# Altium footprint library CONN_W2B.PcbLib: 89 footprints (part 5 of 6)
Each footprint in its own frame and in the unit in brackets; x right, y up, seen from the top. Pads: shape width x height; smd on the part's side, far side on the other; paste and mask are expansions set on the pad; w line width, h text height; cw(c..) or ccw(c..) is an arc to the next point about the centre after c.
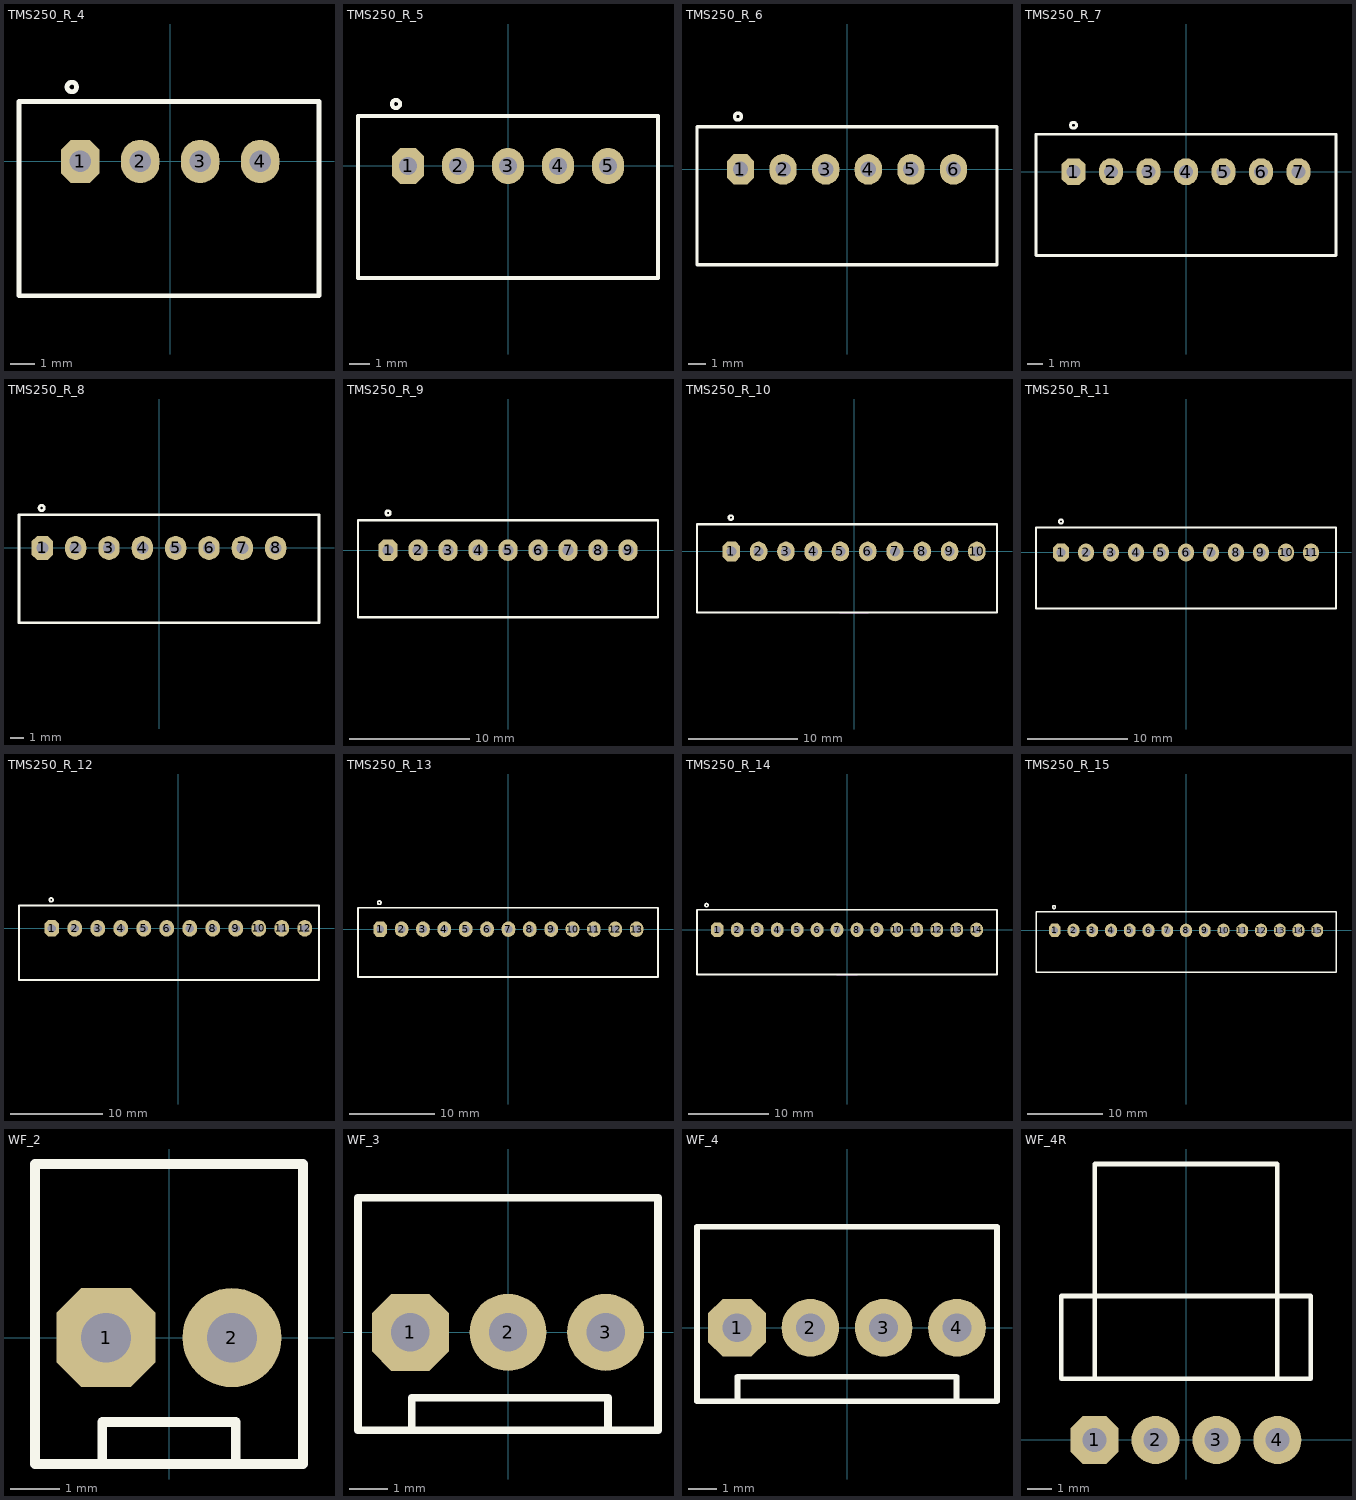
[diagram p4: the footprints below, top view; thin cyan lines are the x and y axes]

## TMS250_R_4 [mm] "Molex Mini-SPOX, pitch 2.50mm, 4.0A"
pads (4):
  oct 1.6x1.8 hole 0.9: 1(-3.75,0)
  oval 1.6x1.8 hole 0.9: 2(-1.25,0) 3(1.25,0) 4(3.75,0)
Top Overlay:
  circle w0.2: c-4.1,3.1 r0.2
  lines w0.2: -6.3,-5.6 6.2,-5.6 6.2,2.5 -6.3,2.5 -6.3,-5.6
Mechanical 13:
  lines w0.1: -1.3,-5.6 1.3,-5.6
  text "Edge of PCB" at 1.405,-5.932 h1
3D body "User Library-TMS4-2_5_RA-H.step": height 5.12, standoff -3.08, extent -6.25,-11.5 6.15,1.4

## TMS250_R_5 [mm] "Molex Mini-SPOX, pitch 2.50mm, 4.0A"
pads (5):
  oct 1.6x1.8 hole 0.9: 1(-5,0)
  oval 1.6x1.8 hole 0.9: 2(-2.5,0) 3(0,0) 4(2.5,0) 5(5,0)
Top Overlay:
  circle w0.2: c-5.6,3.1 r0.2
  lines w0.2: -7.5,-5.6 7.5,-5.6 7.5,2.5 -7.5,2.5 -7.5,-5.6
Mechanical 13:
  lines w0.1: -1.3,-5.6 1.3,-5.6
  text "Edge of PCB" at 1.405,-5.932 h1
3D body "User Library-TMS5-2_5_RA-H.step": height 5.06, standoff -3.14, extent -7.45,-10.5 7.45,2.4

## TMS250_R_6 [mm] "Molex Mini-SPOX, pitch 2.50mm, 4.0A"
pads (6):
  oct 1.6x1.8 hole 0.9: 1(-6.25,0)
  oval 1.6x1.8 hole 0.9: 2(-3.75,0) 3(-1.25,0) 4(1.25,0) 5(3.75,0) 6(6.25,0)
Top Overlay:
  circle w0.2: c-6.4,3.1 r0.2
  lines w0.2: -8.8,-5.6 8.8,-5.6 8.8,2.5 -8.8,2.5 -8.8,-5.6
Mechanical 13:
  lines w0.1: -1.3,-5.6 1.3,-5.6
  text "Edge of PCB" at 1.405,-5.932 h1
3D body "User Library-TMS6-2_5_RA-H.step": height 5.04, standoff -3.16, extent -8.7,-11.5 8.7,1.4

## TMS250_R_7 [mm] "Molex Mini-SPOX, pitch 2.50mm, 4.0A"
pads (7):
  oct 1.6x1.8 hole 0.9: 1(-7.5,0)
  oval 1.6x1.8 hole 0.9: 2(-5,0) 3(-2.5,0) 4(0,0) 5(2.5,0) 6(5,0) 7(7.5,0)
Top Overlay:
  circle w0.2: c-7.5,3.1 r0.2
  lines w0.2: -10,-5.6 10,-5.6 10,2.5 -10,2.5 -10,-5.6
Mechanical 13:
  lines w0.1: -1.3,-5.6 1.3,-5.6
  text "Edge of PCB" at 1.405,-5.932 h1
3D body "User Library-TMS7-2_5_RA-H.step": height 5, standoff -3.2, extent -9.95,-10.5 9.95,2.4

## TMS250_R_8 [mm] "Molex Mini-SPOX, pitch 2.50mm, 4.0A"
pads (8):
  oct 1.6x1.8 hole 0.9: 1(-8.75,0)
  oval 1.6x1.8 hole 0.9: 2(-6.25,0) 3(-3.75,0) 4(-1.25,0) 5(1.25,0) 6(3.75,0) 7(6.25,0) 8(8.75,0)
Top Overlay:
  circle w0.2: c-8.8,3 r0.2
  lines w0.2: -10.5,-5.6 12,-5.6 12,2.5 -10.5,2.5 -10.5,-5.6
Mechanical 13:
  lines w0.1: -1.3,-5.6 1.3,-5.6
  text "Edge of PCB" at 1.405,-5.932 h1
3D body "User Library-TMS8-2_5_RA-H.step": height 5.08, standoff -3.12, extent -10.441,-10.5 11.959,2.4

## TMS250_R_9 [mm] "Molex Mini-SPOX, pitch 2.50mm, 4.0A"
pads (9):
  oct 1.6x1.8 hole 0.9: 1(-10,0)
  oval 1.6x1.8 hole 0.9: 2(-7.5,0) 3(-5,0) 4(-2.5,0) 5(0,0) 6(2.5,0) 7(5,0) 8(7.5,0) 9(10,0)
Top Overlay:
  circle w0.2: c-10,3.1 r0.2
  lines w0.2: -12.5,-5.6 12.5,-5.6 12.5,2.5 -12.5,2.5 -12.5,-5.6
Mechanical 13:
  lines w0.1: -1.3,-5.6 1.3,-5.6
  text "Edge of PCB" at 1.405,-5.932 h1
3D body "User Library-TMS9-2_5_RA-H.step": height 5.06, standoff -3.14, extent -12.45,-10.4 12.45,2.5

## TMS250_R_10 [mm] "Molex Mini-SPOX, pitch 2.50mm, 4.0A"
pads (10):
  oct 1.6x1.8 hole 0.9: 1(-11.25,0)
  oval 1.6x1.8 hole 0.9: 2(-8.75,0) 3(-6.25,0) 4(-3.75,0) 5(-1.25,0) 6(1.25,0) 7(3.75,0) 8(6.25,0) 9(8.75,0) 10(11.25,0)
Top Overlay:
  circle w0.2: c-11.3,3.1 r0.2
  lines w0.2: -14.4,-5.6 -14.4,2.5 13.1,2.5 13.1,-5.6 -14.4,-5.6
Mechanical 13:
  lines w0.1: -1.3,-5.6 1.3,-5.6
  text "Edge of PCB" at 1.405,-5.932 h1
3D body "User Library-TMS10-2_5_RA-H.step": height 5.07, standoff -3.13, extent -14.359,-10.5 13.041,2.4

## TMS250_R_11 [mm] "Molex Mini-SPOX, pitch 2.50mm, 4.0A"
pads (11):
  oct 1.6x1.8 hole 0.9: 1(-12.5,0)
  oval 1.6x1.8 hole 0.9: 2(-10,0) 3(-7.5,0) 4(-5,0) 5(-2.5,0) 6(0,0) 7(2.5,0) 8(5,0) 9(7.5,0) 10(10,0) 11(12.5,0)
Top Overlay:
  circle w0.2: c-12.5,3.1 r0.2
  lines w0.2: -15,-5.6 15,-5.6 15,2.5 -15,2.5 -15,-5.6
Mechanical 13:
  lines w0.1: -1.3,-5.6 1.3,-5.6
  text "Edge of PCB" at 1.405,-5.932 h1
3D body "User Library-TMS11-2_5_RA-H.step": height 5.06, standoff -3.14, extent -14.95,-11.5 14.95,1.4

## TMS250_R_12 [mm] "Molex Mini-SPOX, pitch 2.50mm, 4.0A"
pads (12):
  oct 1.6x1.8 hole 0.9: 1(-13.75,0)
  oval 1.6x1.8 hole 0.9: 2(-11.25,0) 3(-8.75,0) 4(-6.25,0) 5(-3.75,0) 6(-1.25,0) 7(1.25,0) 8(3.75,0) 9(6.25,0) 10(8.75,0) 11(11.25,0) 12(13.75,0)
Top Overlay:
  circle w0.2: c-13.8,3.1 r0.2
  lines w0.2: -17.3,-5.6 -17.3,2.5 15.3,2.5 15.3,-5.6 -17.3,-5.6
Mechanical 13:
  lines w0.1: -1.3,-5.6 1.3,-5.6
  text "Edge of PCB" at 1.405,-5.932 h1
3D body "User Library-TMS12-2_5_RA-H.step": height 5.08, standoff -3.12, extent -17.195,-10.5 15.205,2.4

## TMS250_R_13 [mm] "Molex Mini-SPOX, pitch 2.50mm, 4.0A"
pads (13):
  oct 1.6x1.8 hole 0.9: 1(-15,0)
  oval 1.6x1.8 hole 0.9: 2(-12.5,0) 3(-10,0) 4(-7.5,0) 5(-5,0) 6(-2.5,0) 7(0,0) 8(2.5,0) 9(5,0) 10(7.5,0) 11(10,0) 12(12.5,0) 13(15,0)
Top Overlay:
  circle w0.2: c-15.1,3.1 r0.2
  lines w0.2: -17.6,-5.6 -17.6,2.5 17.5,2.5 17.5,-5.6 -17.6,-5.6
Mechanical 13:
  lines w0.1: -1.3,-5.6 1.3,-5.6
  text "Edge of PCB" at 1.405,-5.932 h1
3D body "User Library-TMS13-2_5_RA-H.step": height 5.07, standoff -2.78, extent -17.45,-11.5 17.45,1.4

## TMS250_R_14 [mm] "Molex Mini-SPOX, pitch 2.50mm, 4.0A"
pads (14):
  oct 1.6x1.8 hole 0.9: 1(-16.25,0)
  oval 1.6x1.8 hole 0.9: 2(-13.75,0) 3(-11.25,0) 4(-8.75,0) 5(-6.25,0) 6(-3.75,0) 7(-1.25,0) 8(1.25,0) 9(3.75,0) 10(6.25,0) 11(8.75,0) 12(11.25,0) 13(13.75,0) 14(16.25,0)
Top Overlay:
  circle w0.2: c-17.6,3.1 r0.2
  lines w0.2: -18.8,-5.6 -18.8,2.5 18.8,2.5 18.8,-5.6 -18.8,-5.6
Mechanical 13:
  lines w0.1: -1.3,-5.6 1.3,-5.6
  text "Edge of PCB" at 1.405,-5.932 h1
3D body "User Library-TMS14-2_5_RA-H.step": height 5, standoff -3.2, extent -18.7,-10.5 18.7,2.4

## TMS250_R_15 [mm] "Molex Mini-SPOX, pitch 2.50mm, 4.0A"
pads (15):
  oct 1.6x1.8 hole 0.9: 1(-17.5,0)
  oval 1.6x1.8 hole 0.9: 2(-15,0) 3(-12.5,0) 4(-10,0) 5(-7.5,0) 6(-5,0) 7(-2.5,0) 8(0,0) 9(2.5,0) 10(5,0) 11(7.5,0) 12(10,0) 13(12.5,0) 14(15,0) 15(17.5,0)
Top Overlay:
  circle w0.2: c-17.6,3.1 r0.2
  lines w0.2: -20,-5.6 20,-5.6 20,2.5 -20,2.5 -20,-5.6
Mechanical 13:
  lines w0.1: -1.3,-5.6 1.3,-5.6
  text "Edge of PCB" at 1.405,-5.932 h1
3D body "User Library-TMS15-2_5_RA-H.step": height 5.04, standoff -3.16, extent -19.95,-10.5 19.95,2.4

## WF_2 [mm] "DS1070  WF, Cvilux CI31 pitch 2.54mm"
pads (2):
  oct 2x2 hole 1: 1(-1.27,0)
  round 2 hole 1: 2(1.27,0)
Top Overlay:
  lines w0.2: -1.346,-2.548 -1.346,-1.7 1.346,-1.7 1.346,-2.548 ; -2.7,-2.548 -2.7,3.5 2.7,3.5 2.7,-2.548 -2.7,-2.548
3D body "User Library-CI31_2.step": height 11.56, standoff -3.24, extent -2.54,-2.402 2.54,3.398

## WF_3 [mm] "DS1070  WF, Cvilux CI31 pitch 2.54mm"
pads (3):
  oct 2x2 hole 1: 1(-2.54,0)
  round 2 hole 1: 2(0,0) 3(2.54,0)
Top Overlay:
  lines w0.2: -2.5,-2.548 -2.5,-1.7 2.6,-1.7 2.6,-2.548 ; -3.9,-2.548 3.9,-2.548 3.9,3.5 -3.9,3.5 -3.9,-2.548
3D body "User Library-CI31_3.step": height 11.56, standoff -3.24, extent -3.81,-2.4 3.81,3.4

## WF_4 [mm] "DS1070  WF, Cvilux CI31 pitch 2.54mm"
pads (4):
  oct 2x2 hole 1: 1(-3.81,0)
  round 2 hole 1: 2(-1.27,0) 3(1.27,0) 4(3.81,0)
Top Overlay:
  lines w0.2: -3.8,-2.548 -3.8,-1.7 3.8,-1.7 3.8,-2.548 ; -5.2,-2.548 -5.2,3.5 5.2,3.5 5.2,-2.548 -5.2,-2.548
3D body "User Library-CI31_4.step": height 11.56, standoff -3.24, extent -5.08,-2.402 5.08,3.398

## WF_4R [mm] "DS1070  WF, Cvilux CI31 pitch 2.54mm right angle"
pads (4):
  oct 2x2 hole 1: 1(-3.81,0)
  round 2 hole 1: 2(-1.27,0) 3(1.27,0) 4(3.81,0)
Top Overlay:
  lines w0.2: -3.8,2.548 -3.8,11.5 3.8,11.5 3.8,2.548 ; -5.2,2.548 5.2,2.548 5.2,6 -5.2,6 -5.2,2.548
3D body "molex-kk254-right-4.stp": height 6.38, standoff -3.56, extent -5.004,-0.336 5.004,12.593